# Altium schematic symbol library Components - 25.09.25 - 02.39.SchLib: 1 symbol
Pins are listed as number, name and electrical type; pins without a type are passive.

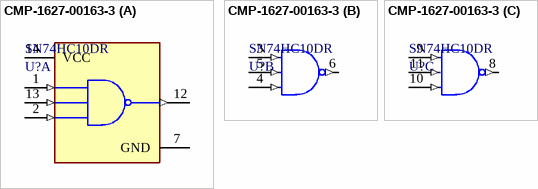
[diagram p0: symbol CMP-1627-00163-3]

## CMP-1627-00163-3
designator U?, comment SN74HC10DR
IC GATE NAND 3CH 3-INP 14SOIC; Number of Input Lines: 3; Propagation Delay: 16ns; Max Supply Voltage: 6V; Min Supply Voltage: 2V; Number of Outputs: 1; Schmitt Trigger Input: No; Quiescent Current: 2uA; Output Current: 25mA; Low Level Output Current: 5.2mA; High Level Output Current: -5.2mA; Logic Function: NAND GATE; Turn-On Delay Time: 24ns; Operating Supply Voltage: 5V; Contact Plating: Gold; Number of Gates: 3; Packaging: Tape and Reel; Lead Free: Lead Free; Height: 1.58mm; Length: 8.65mm; Number of Inputs: 3; Number of Pins: 14; RoHS Compliant: Yes; Number of Bits: 3; Number of Circuits: 3; Min Operating Temperature: -40°C; Mount: Surface Mount; REACH SVHC: No SVHC; Radiation Hardening: No; Package Quantity: 1; Number of Output Lines: 1; Weight: 0.004564oz; Max Operating Temperature: 85°C; Number of Elements: 3; Case/Package: SOIC; Width: 3.91mm
footprint FP-D0014A-IPC_B
footprint FP-D0014A-IPC_C
footprint FP-D0014A-MFG
footprint FP-D0014A-IPC_A
part A pins: 1 1A (in), 2 1B (in), 7 GND (power), 12 1Y (out), 13 1C (in), 14 VCC (power)
part B pins: 3 2A (in), 4 2B (in), 5 2C (in), 6 2Y (out)
part C pins: 8 3Y (out), 9 3A (in), 10 3B (in), 11 3C (in)